# EAGLE library part LM3S608-LQFP48 (library CEDTv40 (1))
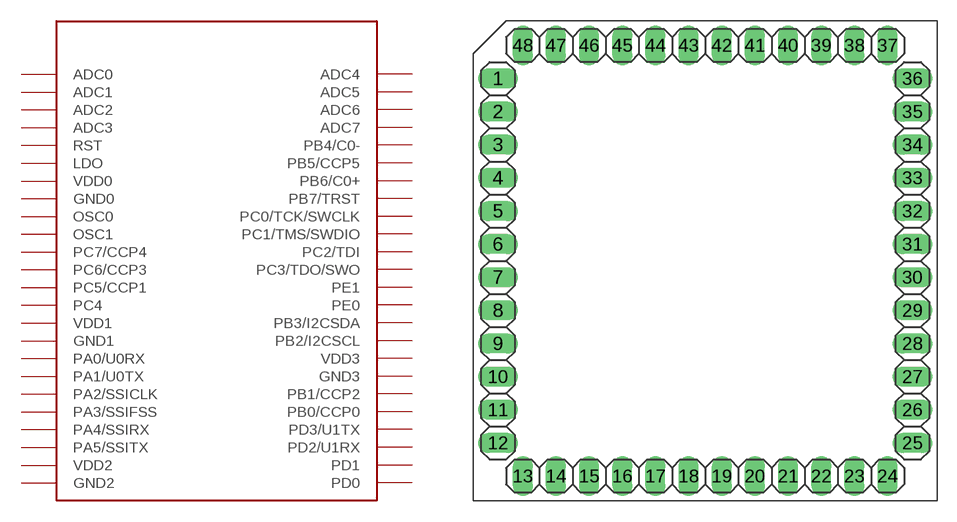
[diagram p38: symbol with the pads of LQFP48; footprint LQFP48]

Designator prefix -

## LM3S608-LQFP48  [LQFP48]
1  ADC0  pas
2  ADC1  pas
3  ADC2  pas
4  ADC3  pas
5  RST  pas
6  LDO  pas
7  VDD0  pas
8  GND0  pas
9  OSC0  pas
10  OSC1  pas
11  PC7/CCP4  pas
12  PC6/CCP3  pas
13  PC5/CCP1  pas
14  PC4  pas
15  VDD1  pas
16  GND1  pas
17  PA0/U0RX  pas
18  PA1/U0TX  pas
19  PA2/SSICLK  pas
20  PA3/SSIFSS  pas
21  PA4/SSIRX  pas
22  PA5/SSITX  pas
23  VDD2  pas
24  GND2  pas
25  PD0  pas
26  PD1  pas
27  PD2/U1RX  pas
28  PD3/U1TX  pas
29  PB0/CCP0  pas
30  PB1/CCP2  pas
31  GND3  pas
32  VDD3  pas
33  PB2/I2CSCL  pas
34  PB3/I2CSDA  pas
35  PE0  pas
36  PE1  pas
37  PC3/TDO/SWO  pas
38  PC2/TDI  pas
39  PC1/TMS/SWDIO  pas
40  PC0/TCK/SWCLK  pas
41  PB7/TRST  pas
42  PB6/C0+  pas
43  PB5/CCP5  pas
44  PB4/C0-  pas
45  ADC7  pas
46  ADC6  pas
47  ADC5  pas
48  ADC4  pas

## Footprint LQFP48 (pad centres in mm)
48-pin Low Profile Quad Flat Pack
drill 1.016 long: 1 1.905,32.385; 2 1.905,29.845; 3 1.905,27.305; 4 1.905,24.765; 5 1.905,22.225; 6 1.905,19.685; 7 1.905,17.145; 8 1.905,14.605; 9 1.905,12.065; 10 1.905,9.525; 11 1.905,6.985; 12 1.905,4.445; 13 3.81,1.905; 14 6.35,1.905; 15 8.89,1.905; 16 11.43,1.905; 17 13.97,1.905; 18 16.51,1.905; 19 19.05,1.905; 20 21.59,1.905; 21 24.13,1.905; 22 26.67,1.905; 23 29.21,1.905; 24 31.75,1.905; 25 33.655,4.445; 26 33.655,6.985; 27 33.655,9.525; 28 33.655,12.065; 29 33.655,14.605; 30 33.655,17.145; 31 33.655,19.685; 32 33.655,22.225; 33 33.655,24.765; 34 33.655,27.305; 35 33.655,29.845; 36 33.655,32.385; 37 31.75,34.925; 38 29.21,34.925; 39 26.67,34.925; 40 24.13,34.925; 41 21.59,34.925; 42 19.05,34.925; 43 16.51,34.925; 44 13.97,34.925; 45 11.43,34.925; 46 8.89,34.925; 47 6.35,34.925; 48 3.81,34.925